# EAGLE library part LR62E (library microfloat)
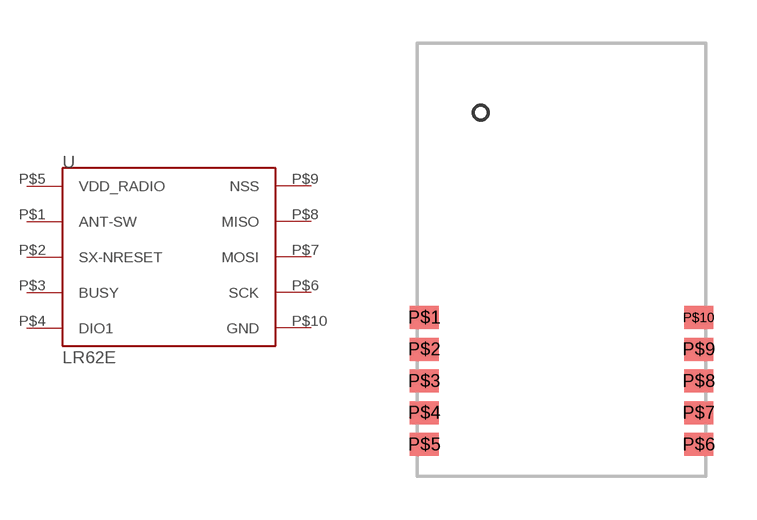
[diagram p15: symbol with the pads of LR62E; footprint LR62E]

Designator prefix -

## LR62E (DKPN: 1914-LR62ECT-ND)  [LR62E]
P$1  ANT-SW  pas
P$2  SX-NRESET  pas
P$3  BUSY  pas
P$4  DIO1  pas
P$5  VDD_RADIO  pas
P$6  SCK  pas
P$7  MOSI  pas
P$8  MISO  pas
P$9  NSS  pas
P$10  GND  pas

## Footprint LR62E (pad centres in mm)
smd 1 x 0.8: P$1 -4.75,-2; P$2 -4.75,-3.1; P$3 -4.75,-4.2; P$4 -4.75,-5.3; P$5 -4.75,-6.4; P$6 4.75,-6.4; P$7 4.75,-5.3; P$8 4.75,-4.2; P$9 4.75,-3.1; P$10 4.75,-2